# Altium footprint library MSOP.PcbLib: 1 footprints
Each footprint in its own frame and in the unit in brackets; x right, y up, seen from the top. Pads: shape width x height; smd on the part's side, far side on the other; paste and mask are expansions set on the pad; w line width, h text height; cw(c..) or ccw(c..) is an arc to the next point about the centre after c.
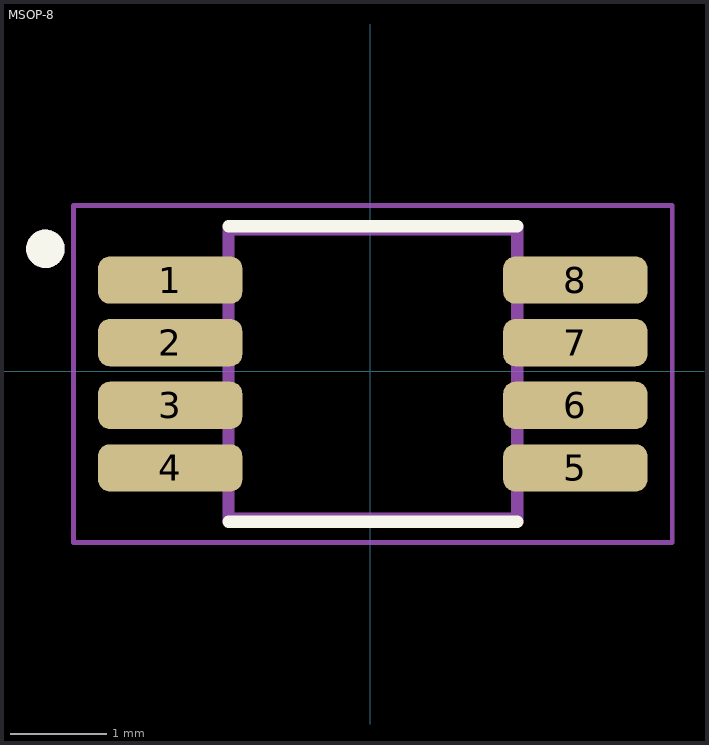
[diagram p0: the footprint, top view; thin cyan lines are the x and y axes]

## MSOP-8 [mm]
height 0.75
pads (8):
  rrect50% 1.5x0.49 smd: 1(-2.077,0.948) 2(-2.077,0.298) 3(-2.077,-0.352) 4(-2.077,-1.002) 5(2.133,-1.002) 6(2.133,-0.352) 7(2.133,0.298) 8(2.133,0.948)
Top Overlay:
  circle w0.2: c-3.372,1.273 r0.1
  lines w0.127: -1.472,-1.561 1.528,-1.561 ; -1.472,1.507 1.528,1.507
Mechanical 13:
  circle w0.2: c-3.372,1.273 r0.1
  lines w0.127: -1.472,-1.527 1.528,-1.527 1.528,1.473 -1.472,1.473 -1.472,-1.527
Mechanical 15:
  lines w0.05: -3.082,-1.777 3.138,-1.777 3.138,1.723 -3.082,1.723 -3.082,-1.777
3D body "step_temp.STEP": height 1.1, standoff 0, extent -2.422,-1.527 2.478,1.473